# EAGLE library part MICRO-USB (library USB)
Micro USB B Type Receptacle
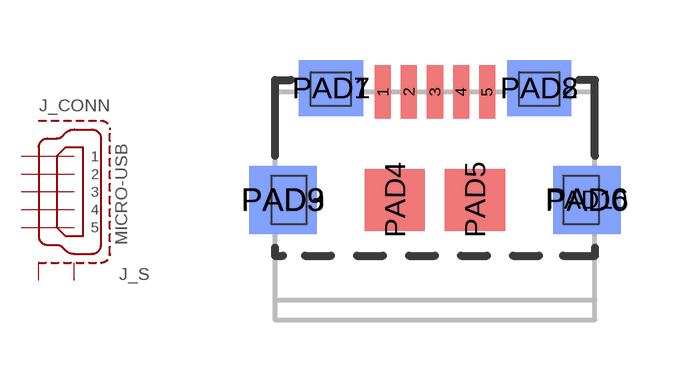
[diagram p14: symbol with the pads of 10118194; footprint 10118194]

Designator prefix J; gates _CONN=MINI-USB _S=MICRO-SHIELD

## MICRO-USB (MF: FCI; MPN: 10118194-0001LF; REVIEWED: NO; TESTED: NO)  [10118194]
1  _CONN:1  in
2  _CONN:2  in
3  _CONN:3  in
4  _CONN:4
5  _CONN:5  in
PAD1  _S:S1  pas
PAD2  _S:S1  pas
PAD3  _S:S1  pas
PAD4  _S:S1  pas
PAD5  _S:S1  pas
PAD6  _S:S1  pas
PAD7  _S:S2  pas
PAD8  _S:S2  pas
PAD9  _S:S2  pas
PAD10  _S:S2  pas

## Footprint 10118194 (pad centres in mm)
Micro USB B Type Receptacle w/ solder retention pins
smd 0.4 x 1.35: 1 -1.3,2.7; 2 -0.65,2.7; 3 0,2.7; 4 0.65,2.7; 5 1.3,2.7
smd 1.6 x 1.4: PAD1 -2.6,2.8; PAD2 2.6,2.8
smd 1.7 x 1.7: PAD3 -3.8,0; PAD6 3.8,0
smd 1.5 x 1.55: PAD4 -1,0; PAD5 1,0
smd 1.6 x 1.4 bottom: PAD7 -2.6,2.8; PAD8 2.6,2.8
smd 1.7 x 1.7 bottom: PAD9 -3.8,0; PAD10 3.8,0